# Altium schematic symbol library Schlib1.SchLib: 7 symbols
Pins are listed as number, name and electrical type; pins without a type are passive.

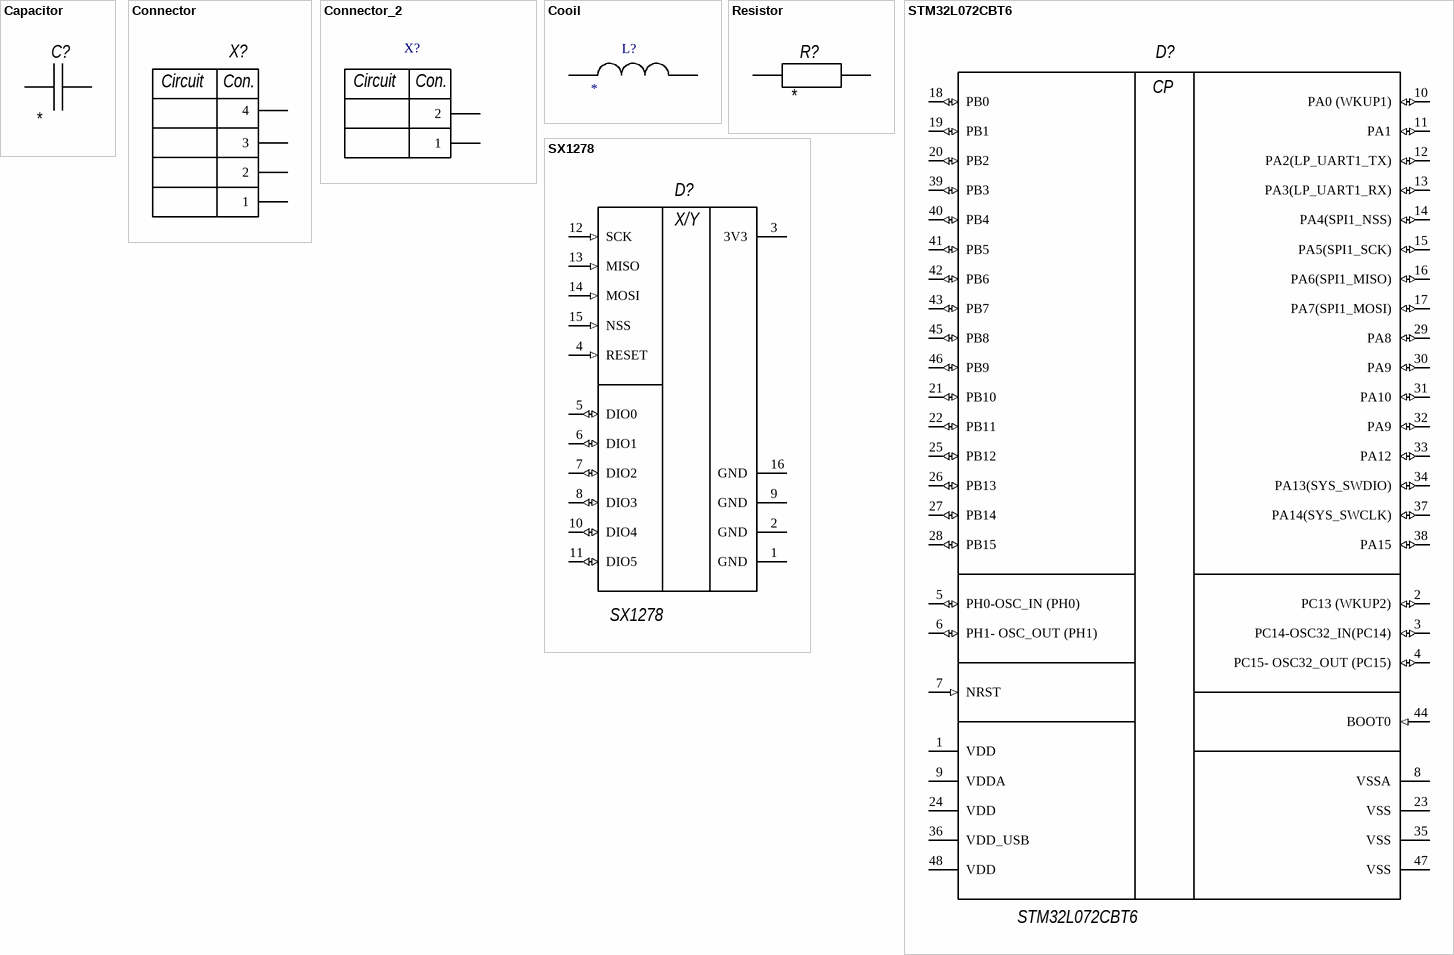
[diagram p0: symbols Capacitor to SX1278]

## Capacitor
designator C?
Model: *; Manufacture: *; helpURL: *; Case: *; Value: *
footprint C0805
footprint CAPC1608X87N
pins: 1, 2

## Connector
designator X?
Manufacture: TE Connectivity AMP Connectors; Part number: 1776275-4; Model: *; helpURL: https://www.digikey.com/product-detail/en/te-connectivity-amp-connectors/1776275-4/A98038-ND/1826901; Case: Terminal Bloak
footprint Conector
footprint HDRV1W64P254_1X4_254X241X838P
pins: 1, 2, 3, 4
text: Circuit; Con.

## Connector_2
designator X?  (value not drawn)
footprint Pad_Connector_2
pins: 1, 2
text: Circuit; Con.

## Cooil
designator L?
Value: *; helpURL: *; Manufacture: *
footprint 1239ASH100MP2
pins: 1, 2

## Resistor
designator R?
Model: *; Manufacture: *; helpURL: *; Case: *; Value: *
footprint R1206
footprint R0603
pins: 1, 2

## STM32L072CBT6
designator D?
ARM Cortex M0+, 128 KB,  32 MHz; Manufacture: ST; Model: STM32L072CBT6; helpURL: https://www.st.com/en/microcontrollers-microprocessors/stm32l072cb.htmhttps://www.st.com/en/microcontrollers-microprocessors/stm32l072cb.html; Case: 48-LQFP
footprint LQFP-48N (TSQFP, 48-Leads, Body 7,00x7,00mm, Pitch 0,50mm, IPC Medium Density)
pins: 1 VDD (power), 2 PC13 (WKUP2) (io), 3 PC14-OSC32_IN(PC14) (io), 4 PC15- OSC32_OUT (PC15) (io), 5 PH0-OSC_IN (PH0) (io), 6 PH1- OSC_OUT (PH1) (io), 7 NRST (in), 8 VSSA (power), 9 VDDA (power), 10 PA0 (WKUP1) (io), 11 PA1 (io), 12 PA2(LP_UART1_TX) (io), 13 PA3(LP_UART1_RX) (io), 14 PA4(SPI1_NSS) (io), 15 PA5(SPI1_SCK) (io), 16 PA6(SPI1_MISO) (io), 17 PA7(SPI1_MOSI) (io), 18 PB0 (io), 19 PB1 (io), 20 PB2 (io), 21 PB10 (io), 22 PB11 (io), 23 VSS (power), 24 VDD (power), 25 PB12 (io), 26 PB13 (io), 27 PB14 (io), 28 PB15 (io), 29 PA8 (io), 30 PA9 (io), 31 PA10 (io), 32 PA9 (io), 33 PA12 (io), 34 PA13(SYS_SWDIO) (io), 35 VSS (power), 36 VDD_USB (power), 37 PA14(SYS_SWCLK) (io), 38 PA15 (io), 39 PB3 (io), 40 PB4 (io), 41 PB5 (io), 42 PB6 (io), 43 PB7 (io), 44 BOOT0 (in), 45 PB8 (io), 46 PB9 (io), 47 VSS (power), 48 VDD (power)
text: CP

## SX1278
designator D?
Wireless Modules RoHS, Lora, 433 MHz; Manufacture: Ai-Thinker; Model: SX1278; helpURL: https://lcsc.com/product-detail/Wireless-Modules_SX1278LoRaWireless-Modules-Long10KM-433_C90039.html; Case: Customer
footprint RA-02 Lora
pins: 1 GND (power), 2 GND (power), 3 3V3 (power), 4 RESET (in), 5 DIO0 (io), 6 DIO1 (io), 7 DIO2 (io), 8 DIO3 (io), 9 GND (power), 10 DIO4 (io), 11 DIO5 (io), 12 SCK (in), 13 MISO (in), 14 MOSI (in), 15 NSS (in), 16 GND (power)
text: X/Y